# Altium schematic symbol library TPS40210DGQ.SchLib: 1 symbol
Pins are listed as number, name and electrical type; pins without a type are passive.

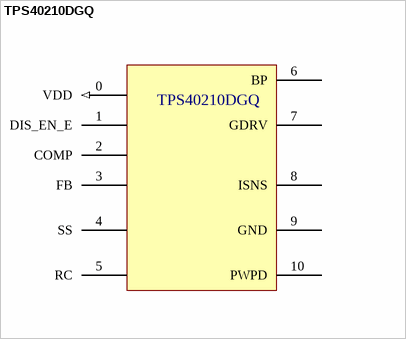
[diagram p0: symbol TPS40210DGQ]

## TPS40210DGQ
designator TPS40210DGQ
pins: 0 VDD (in), 1 DIS_EN_E, 2 COMP, 3 FB, 4 SS, 5 RC, 6 BP, 7 GDRV, 8 ISNS, 9 GND, 10 PWPD